# EAGLE library part 74HC164D (library NXP_By_element14_Batch_1)
8-bit serial-in, parallel-out shift register
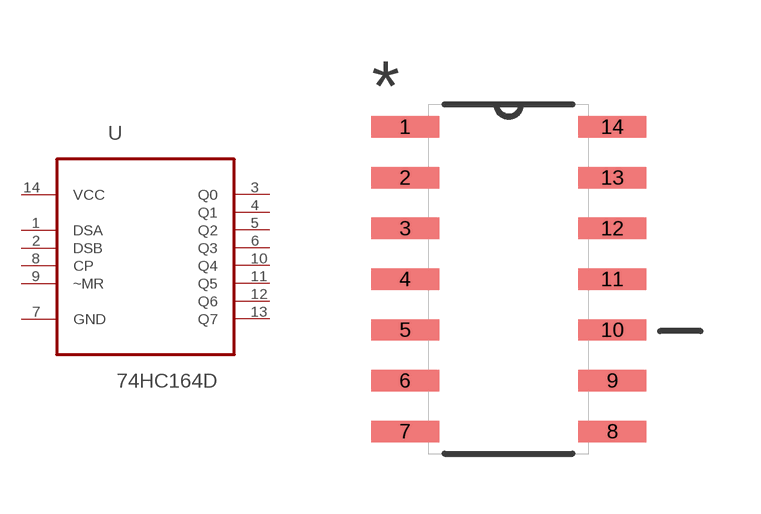
[diagram p45: symbol with the pads of SOIC127P600X175-14N; footprint SOIC127P600X175-14N]

Designator prefix U

## 74HC164D (MPN: 74HC164D; OC_FARNELL: 1085337; OC_NEWARK: 99K0584; PACKAGE: SOIC-14; SUPPLIER: NXP)  [SOIC127P600X175-14N]
1  DSA  in
2  DSB  in
3  Q0  out
4  Q1  out
5  Q2  out
6  Q3  out
7  GND  pas
8  CP  in
9  ~MR  in
10  Q4  out
11  Q5  out
12  Q6  out
13  Q7  out
14  VCC  pwr

## Footprint SOIC127P600X175-14N (pad centres in mm)
smd 1.702 x 0.533: 1 -2.591,3.81; 2 -2.591,2.54; 3 -2.591,1.27; 4 -2.591,0; 5 -2.591,-1.27; 6 -2.591,-2.54; 7 -2.591,-3.81; 8 2.591,-3.81; 9 2.591,-2.54; 10 2.591,-1.27; 11 2.591,0; 12 2.591,1.27; 13 2.591,2.54; 14 2.591,3.81